# Altium footprint library RD3399-20181026.PcbLib: 57 footprints (part 2 of 4)
Each footprint in its own frame and in the unit in brackets; x right, y up, seen from the top. Pads: shape width x height; smd on the part's side, far side on the other; paste and mask are expansions set on the pad; w line width, h text height; cw(c..) or ccw(c..) is an arc to the next point about the centre after c.
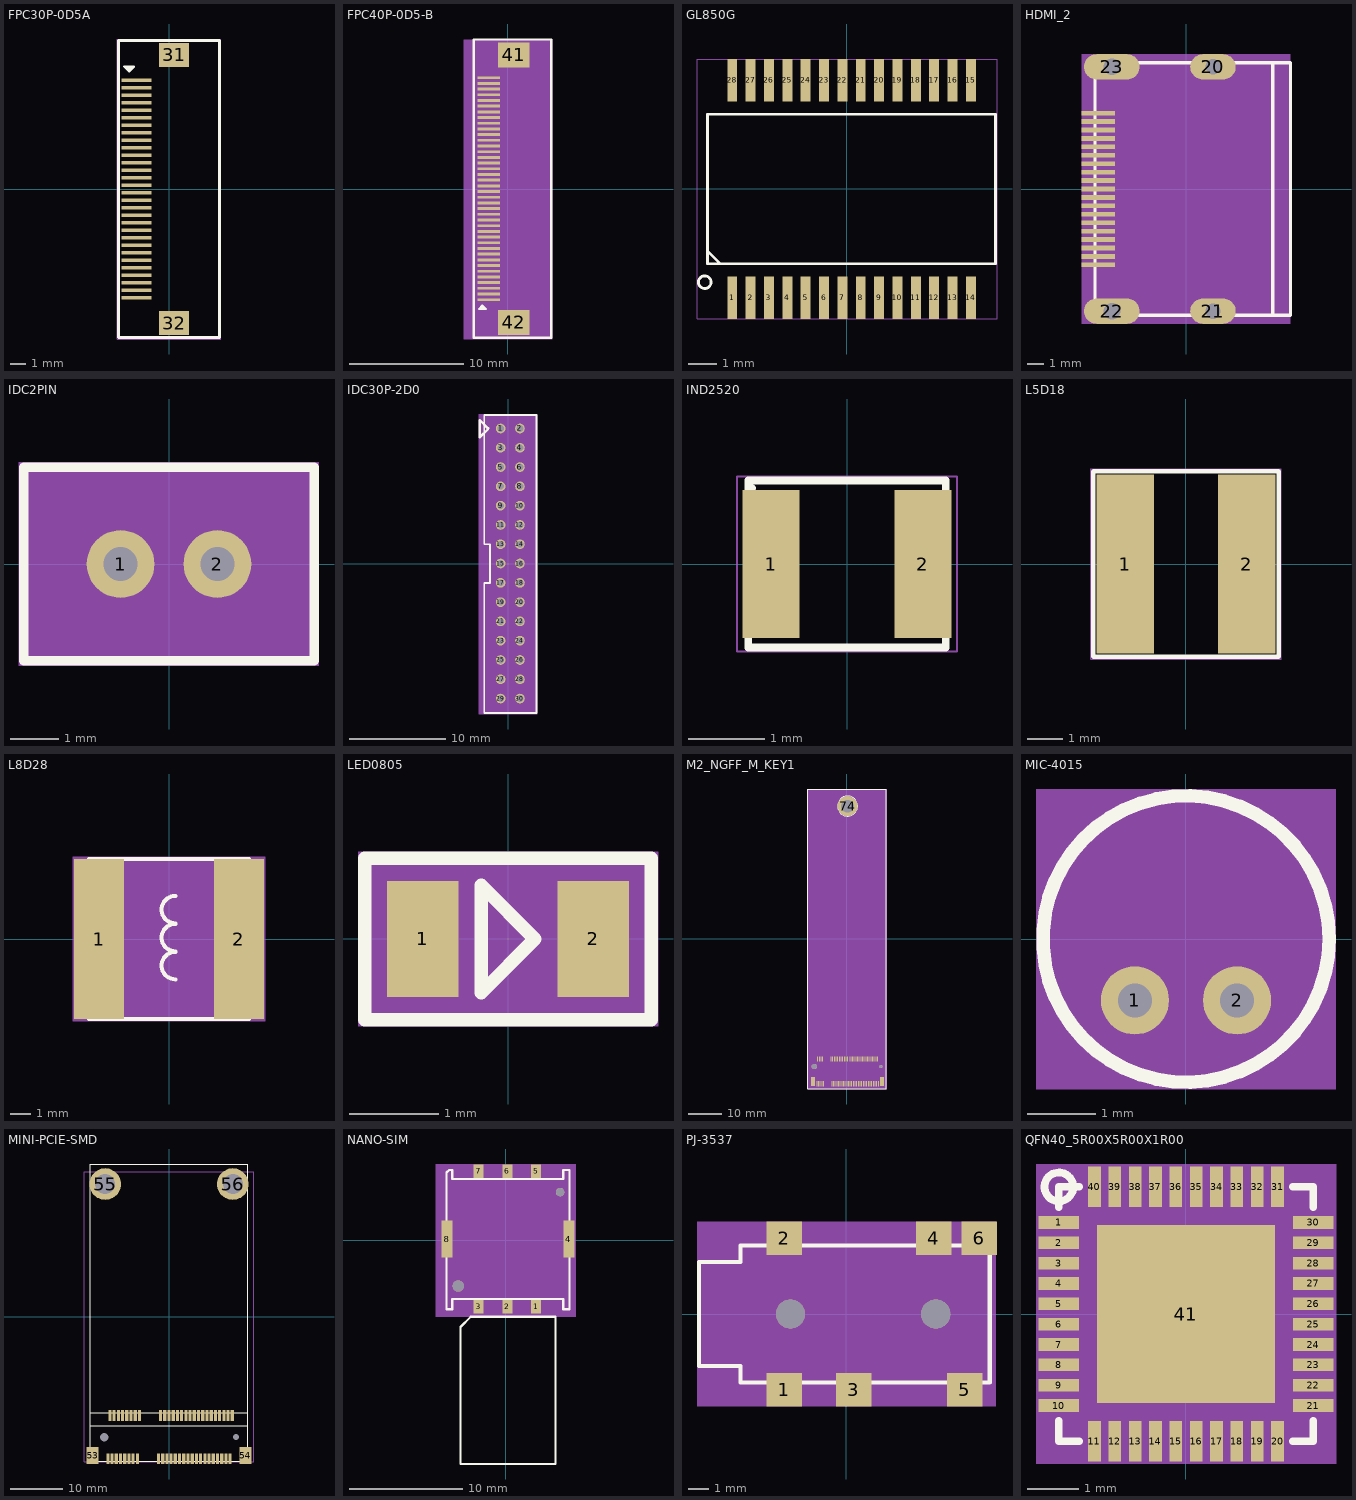
[diagram p1: the footprints below, top view; thin cyan lines are the x and y axes]

## FPC30P-0D5A [mm] "FPC30P-0D5A"
pads (32):
  rect 2x0.25 smd: 1(-2.15,7.251) 2(-2.15,6.751) 3(-2.15,6.25) 4(-2.15,5.75) 5(-2.15,5.249) 6(-2.15,4.749) 7(-2.15,4.249) 8(-2.15,3.751) 9(-2.15,3.251) 10(-2.15,2.75) 11(-2.15,2.25) 12(-2.15,1.749) 13(-2.15,1.249) 14(-2.15,0.751) 15(-2.15,0.251) 16(-2.15,-0.25) 17(-2.15,-0.75) 18(-2.15,-1.25) 19(-2.15,-1.751) 20(-2.15,-2.251) 21(-2.15,-2.749) 22(-2.15,-3.249) 23(-2.15,-3.75) 24(-2.15,-4.25) 25(-2.15,-4.75) 26(-2.15,-5.251) 27(-2.15,-5.751) 28(-2.15,-6.249) 29(-2.15,-6.749) 30(-2.15,-7.25)
  rect 2x1.6 smd: 31(0.35,8.949) 32(0.35,-8.949)
Top Overlay:
  lines w0.152: -2.811,8.06 -2.481,8.06 ; -2.75,7.961 -2.56,7.961 ; -2.654,7.842 -2.331,8.164 -2.976,8.164 -2.651,7.839
  lines w0.2: -3.35,-9.9 -3.35,9.9 0.95,9.9 3.35,9.9 3.35,-9.9 -3.35,-9.9
  text ".Designator" at -1,-11.25 h0.8
Mechanical 7:
  text "29" at -2.211,-6.749 h0.08
  text "30" at -2.211,-7.25 h0.08
  text "28" at -2.211,-6.249 h0.08
  text "31" at 0.289,8.949 h0.08
  text "2" at -2.18,6.751 h0.08
  text "15" at -2.211,0.251 h0.08
  text "24" at -2.211,-4.25 h0.08
  text "32" at 0.289,-8.949 h0.08
  text "3" at -2.18,6.25 h0.08
  text "5" at -2.18,5.249 h0.08
  text "8" at -2.18,3.751 h0.08
  text "6" at -2.18,4.749 h0.08
  text "1" at -2.18,7.251 h0.08
  text "27" at -2.211,-5.751 h0.08
  text "13" at -2.211,1.249 h0.08
  text "11" at -2.211,2.25 h0.08
  text "10" at -2.211,2.75 h0.08
  text "25" at -2.211,-4.75 h0.08
  text "26" at -2.211,-5.251 h0.08
  text "23" at -2.211,-3.75 h0.08
  text "4" at -2.18,5.75 h0.08
  text "7" at -2.18,4.249 h0.08
  text "16" at -2.211,-0.25 h0.08
  text "20" at -2.211,-2.251 h0.08
  text "18" at -2.211,-1.25 h0.08
  text "9" at -2.18,3.251 h0.08
  text "21" at -2.211,-2.749 h0.08
  text "22" at -2.211,-3.249 h0.08
  text "17" at -2.211,-0.75 h0.08
  text "14" at -2.211,0.751 h0.08
  text "12" at -2.211,1.749 h0.08
  text "19" at -2.211,-1.751 h0.08
Mechanical 8:
  lines w0.025: -3.45,-10 -3.45,10 3.45,10 3.45,-10 -3.45,-10

## FPC40P-0D5-B [mm] "FPC40P-0D5-B"
pads (42):
  rect 2x0.25 smd: 1(-1.699,-9.688) 2(-1.699,-9.188) 3(-1.699,-8.688) 4(-1.699,-8.19) 5(-1.699,-7.689) 6(-1.699,-7.189) 7(-1.699,-6.689) 8(-1.699,-6.188) 9(-1.699,-5.688) 10(-1.699,-5.188) 11(-1.699,-4.69) 12(-1.699,-4.189) 13(-1.699,-3.689) 14(-1.699,-3.189) 15(-1.699,-2.688) 16(-1.699,-2.188) 17(-1.699,-1.687) 18(-1.699,-1.19) 19(-1.699,-0.689) 20(-1.699,-0.189) 21(-1.699,0.312) 22(-1.699,0.812) 23(-1.699,1.312) 24(-1.699,1.81) 25(-1.699,2.311) 26(-1.699,2.811) 27(-1.699,3.311) 28(-1.699,3.812) 29(-1.699,4.312) 30(-1.699,4.812) 31(-1.699,5.31) 32(-1.699,5.811) 33(-1.699,6.311) 34(-1.699,6.811) 35(-1.699,7.312) 36(-1.699,7.812) 37(-1.699,8.313) 38(-1.699,8.81) 39(-1.699,9.311) 40(-1.699,9.811)
  rect 2.799x2.2 smd: 41(0.5,11.81) 42(0.5,-11.687)
Top Overlay:
  lines w0.152: -2.418,-10.399 -2.088,-10.399 ; -2.34,-10.3 -2.149,-10.3 ; -2.248,-10.178 -1.923,-10.503 -2.568,-10.503 -2.246,-10.18
  lines w0.2: -2.999,-13.039 -2.999,13.161 3.801,13.161 3.801,-13.039 -2.999,-13.039
  text ".Designator" at 2.751,-13.839 h0.8
Mechanical 7:
  text "14" at -1.699,-3.348 h0.2
  text "1" at -1.699,-9.768 h0.2
  text "17" at -1.699,-1.847 h0.2
  text "24" at -1.699,1.65 h0.2
  text "25" at -1.699,2.151 h0.2
  text "30" at -1.699,4.653 h0.2
  text "41" at 0.5,11.65 h0.2
  text "16" at -1.699,-2.348 h0.2
  text "15" at -1.699,-2.848 h0.2
  text "2" at -1.699,-9.268 h0.2
  text "5" at -1.699,-7.769 h0.2
  text "8" at -1.699,-6.268 h0.2
  text "11" at -1.699,-4.85 h0.2
  text "42" at 0.5,-11.847 h0.2
  text "35" at -1.699,7.152 h0.2
  text "21" at -1.699,0.152 h0.2
  text "18" at -1.699,-1.35 h0.2
  text "19" at -1.699,-0.849 h0.2
  text "20" at -1.699,-0.349 h0.2
  text "40" at -1.699,9.651 h0.2
  text "36" at -1.699,7.652 h0.2
  text "39" at -1.699,9.151 h0.2
  text "37" at -1.699,8.153 h0.2
  text "38" at -1.699,8.65 h0.2
  text "9" at -1.699,-5.768 h0.2
  text "10" at -1.699,-5.348 h0.2
  text "31" at -1.699,5.15 h0.2
  text "32" at -1.699,5.651 h0.2
  text "33" at -1.699,6.151 h0.2
  text "34" at -1.699,6.651 h0.2
  text "29" at -1.699,4.152 h0.2
  text "28" at -1.699,3.652 h0.2
  text "27" at -1.699,3.151 h0.2
  text "26" at -1.699,2.651 h0.2
  text "12" at -1.699,-4.349 h0.2
  text "13" at -1.699,-3.849 h0.2
  text "6" at -1.699,-7.269 h0.2
  text "7" at -1.699,-6.769 h0.2
  text "4" at -1.699,-8.27 h0.2
  text "3" at -1.699,-8.768 h0.2
  text "22" at -1.699,0.652 h0.2
  text "23" at -1.699,1.152 h0.2
Mechanical 8:
  region: 3.876,-13.139 3.876,13.139 -3.876,13.139 -3.876,-13.139

## GL850G [mm] "GL850G"
pads (28):
  rect 0.35x1.5 smd: 1(-4.063,-3.85) 2(-3.413,-3.85) 3(-2.763,-3.85) 4(-2.113,-3.85) 5(-1.463,-3.85) 6(-0.813,-3.85) 7(-0.163,-3.85) 8(0.487,-3.85) 9(1.137,-3.85) 10(1.787,-3.85) 11(2.437,-3.85) 12(3.087,-3.85) 13(3.737,-3.85) 14(4.387,-3.85) 15(4.387,3.85) 16(3.737,3.85) 17(3.087,3.85) 18(2.437,3.85) 19(1.787,3.85) 20(1.137,3.85) 21(0.487,3.85) 22(-0.163,3.85) 23(-0.813,3.85) 24(-1.463,3.85) 25(-2.113,3.85) 26(-2.763,3.85) 27(-3.413,3.85) 28(-4.063,3.85)
Top Overlay:
  circle w0.1: c-5.038,-3.3 r0.224
  lines w0.1: -4.938,-2.2 -4.538,-2.6 ; -4.938,-2.65 -4.938,2.65 5.262,2.65 5.262,-2.65 -4.938,-2.65
Mechanical 7:
  text "19" at 1.279,3.85 h0.64
  text "22" at -0.671,3.85 h0.64
  text "20" at 0.629,3.85 h0.64
  text "14" at 3.879,-3.85 h0.64
  text "15" at 3.879,3.85 h0.64
  text "13" at 3.229,-3.85 h0.64
  text "6" at -1.067,-3.85 h0.64
  text "18" at 1.929,3.85 h0.64
  text "7" at -0.417,-3.85 h0.64
  text "24" at -1.971,3.85 h0.64
  text "16" at 3.229,3.85 h0.64
  text "1" at -4.317,-3.85 h0.64
  text "10" at 1.279,-3.85 h0.64
  text "5" at -1.717,-3.85 h0.64
  text "21" at -0.021,3.85 h0.64
  text "17" at 2.579,3.85 h0.64
  text "4" at -2.367,-3.85 h0.64
  text "27" at -3.921,3.85 h0.64
  text "28" at -4.571,3.85 h0.64
  text "2" at -3.667,-3.85 h0.64
  text "3" at -3.017,-3.85 h0.64
  text "8" at 0.233,-3.85 h0.64
  text "9" at 0.883,-3.85 h0.64
  text "12" at 2.579,-3.85 h0.64
  text "11" at 1.929,-3.85 h0.64
  text "26" at -3.271,3.85 h0.64
  text "25" at -2.621,3.85 h0.64
  text "23" at -1.321,3.85 h0.64
Mechanical 8:
  lines w0.025: -5.312,-4.6 -5.312,4.6 5.312,4.6 5.312,-4.6 -5.312,-4.6
Mechanical 9:
  text ".Designator" at 0.062,-0.525 h0.6
  text "GL850G" at 2.702,0 h0.8

## HDMI_2 [mm] "HDMI_2"
pads (23):
  rect 2x0.28 smd: 1(-5.2,4.5) 2(-5.2,4) 3(-5.2,3.5) 4(-5.2,3) 5(-5.2,2.5) 6(-5.2,2) 7(-5.2,1.5) 8(-5.2,1) 9(-5.2,0.5) 10(-5.2,0) 11(-5.2,-0.5) 12(-5.2,-1) 13(-5.2,-1.5) 14(-5.2,-2) 15(-5.2,-2.5) 16(-5.2,-3) 17(-5.2,-3.5) 18(-5.2,-4) 19(-5.2,-4.5)
  oval 2.7x1.5 hole 0.9: 20(1.6,7.25) 21(1.6,-7.25)
  oval 3.3x1.5 hole 1: 22(-4.4,-7.25) 23(-4.4,7.25)
Top Overlay:
  lines w0.203: 5.15,-7.5 5.15,7.5 ; -5.4,-7.5 6.2,-7.5 6.2,7.5 -5.4,7.5 -5.4,-7.5
  text ".Designator" at 3.15,-8.15 h0.8
Mechanical 7:
  text "17" at -5.2,-2.992 h0.64
  text "8" at -5.2,1.254 h0.64
  text "11" at -5.2,0.008 h0.64
  text "2" at -5.2,4.254 h0.64
  text "5" at -5.2,2.754 h0.64
  text "1" at -5.2,4.754 h0.64
  text "7" at -5.2,1.754 h0.64
  text "10" at -5.2,0.508 h0.64
  text "3" at -5.2,3.754 h0.64
  text "4" at -5.2,3.254 h0.64
  text "12" at -5.2,-0.492 h0.64
  text "9" at -5.2,0.754 h0.64
  text "6" at -5.2,2.254 h0.64
  text "19" at -5.2,-3.992 h0.64
  text "15" at -5.2,-1.992 h0.64
  text "16" at -5.2,-2.492 h0.64
  text "13" at -5.2,-0.992 h0.64
  text "14" at -5.2,-1.492 h0.64
  text "18" at -5.2,-3.492 h0.64
  text "20" at 1.6,7.758 h0.64
  text "22" at -4.4,-6.742 h0.64
  text "23" at -4.4,7.758 h0.64
  text "21" at 1.6,-6.742 h0.64
Mechanical 8:
  region: -6.2,-8 6.2,-8 6.2,8 -6.2,8

## IDC2PIN [mm] "IDC2PIN"
pads (2):
  round 1.4 hole 0.7: 1(-1,0) 2(1,0)
Top Overlay:
  lines w0.2: -3,-2 -3,-1 -3,2 3,2 3,-2 -3,-2
Mechanical 7:
  text "1" at -1,0.254 h0.64
  text "2" at 1,0.254 h0.64
Mechanical 8:
  region: -3.1,-2.1 3.1,-2.1 3.1,2.1 -3.1,2.1
Mechanical 9:
  text ".Designator" at -0.25,1 h0.6

## IDC30P-2D0 [mm] "IDC30P-2D0"
pads (30):
  round 1 hole 0.7: 1(-0.761,14.05) 2(1.238,14.05) 3(-0.761,12.05) 4(1.238,12.05) 5(-0.761,10.05) 6(1.238,10.05) 7(-0.761,8.05) 8(1.238,8.05) 9(-0.761,6.05) 10(1.238,6.05) 11(-0.761,4.05) 12(1.238,4.05) 13(-0.761,2.05) 14(1.238,2.05) 15(-0.761,0.05) 16(1.238,0.05) 17(-0.761,-1.95) 18(1.238,-1.95) 19(-0.761,-3.95) 20(1.238,-3.95) 21(-0.761,-5.95) 22(1.238,-5.95) 23(-0.761,-7.95) 24(1.238,-7.95) 25(-0.761,-9.95) 26(1.238,-9.95) 27(-0.761,-11.95) 28(1.238,-11.95) 29(-0.761,-13.95) 30(1.238,-13.95)
Top Overlay:
  lines w0.2: -2.462,-15.45 -2.462,-1.95 -1.861,-1.95 -1.861,2.05 -2.462,2.05 -2.462,15.45 2.938,15.45 2.938,-15.45 -2.462,-15.45
  lines w0.254: -2.087,13.975 -2.912,13.15 -2.912,14.9 -2.062,14.05
Mechanical 7:
  text "13" at -0.761,2.558 h0.64
  text "14" at 1.238,2.558 h0.64
  text "25" at -0.761,-9.442 h0.64
  text "26" at 1.238,-9.442 h0.64
  text "5" at -0.761,10.304 h0.64
  text "6" at 1.238,10.304 h0.64
  text "17" at -0.761,-1.442 h0.64
  text "15" at -0.761,0.558 h0.64
  text "16" at 1.238,0.558 h0.64
  text "10" at 1.238,6.558 h0.64
  text "19" at -0.761,-3.442 h0.64
  text "29" at -0.761,-13.442 h0.64
  text "24" at 1.238,-7.442 h0.64
  text "12" at 1.238,4.558 h0.64
  text "20" at 1.238,-3.442 h0.64
  text "22" at 1.238,-5.442 h0.64
  text "9" at -0.761,6.304 h0.64
  text "27" at -0.761,-11.442 h0.64
  text "23" at -0.761,-7.442 h0.64
  text "18" at 1.238,-1.442 h0.64
  text "21" at -0.761,-5.442 h0.64
  text "30" at 1.238,-13.442 h0.64
  text "11" at -0.761,4.558 h0.64
  text "28" at 1.238,-11.442 h0.64
  text "3" at -0.761,12.304 h0.64
  text "7" at -0.761,8.304 h0.64
  text "8" at 1.238,8.304 h0.64
  text "4" at 1.238,12.304 h0.64
  text "2" at 1.238,14.304 h0.64
  text "1" at -0.761,14.304 h0.64
Mechanical 8:
  region: -3.039,-15.55 3.038,-15.55 3.038,15.55 -3.039,15.55
Mechanical 9:
  text ".Designator" at 0.038,-2.575 h0.6

## IND2520 [mm] "IND2520"
pads (2):
  rect 0.75x1.95 smd: 1(-1,0) 2(1,0)
Top Overlay:
  lines w0.1: -1.25,1 -1.3,1 -1.3,1.1 ; -1.3,1.1 -1.3,-1.1 1.3,-1.1 1.3,1.1 -1.3,1.1
  text ".Designator" at -0.875,1.6 h0.8
Mechanical 7:
  text "2" at 0.797,0 h0.51
  text "1" at -1.203,0 h0.51
Mechanical 8:
  lines w0.025: -1.45,-1.15 -1.45,1.15 1.45,1.15 1.45,-1.15 -1.45,-1.15
Mechanical 9:
  text "2.2uH/1A" at -1.1,-0.6 h1.27

## L5D18 [mm] "L5D18"
pads (2):
  rect 1.6x5 smd: 1(-1.7,0) 2(1.7,0)
Top Overlay:
  lines w0.127: -2.6,-2.6 2.6,-2.6 2.6,2.6 -2.6,2.6 -2.6,-2.6
  text ".Designator" at -0.95,3.225 h0.8
Mechanical 7:
  text "2" at 1.446,0 h0.64
  text "1" at -1.954,0 h0.64
Mechanical 8:
  lines w0.025: -2.663,-2.663 -2.663,2.663 2.663,2.663 2.663,-2.663 -2.663,-2.663
Mechanical 9:
  text "2.2uH" at -1.3,-0.8 h1.27

## L8D28 [mil] "L8D28"
pads (2):
  rect 98.4x315 smd: 1(-137.8,0) 2(137.8,0)
Top Overlay:
  lines w7.9: 12.4,-79.3 cw(c12.35,-52.35) 12.6,-25.4 ; 12.4,-24.2 cw(c12.35,2.75) 12.6,29.7 ; 12.4,30.9 cw(c12.35,57.85) 12.6,84.8
  lines w8: -157.5,-157.5 -157.5,157.5 157.5,157.5 157.5,-157.5 -157.5,-157.5
Mechanical 7:
  text "1" at -137.8,10 h25
  text "2" at 137.8,10 h25
Mechanical 8:
  region: -189,-161.5 189,-161.5 189,161.5 -189,161.5
Mechanical 9:
  text ".Designator" at -15.75,11.81 h23.62
  text "4.7uH 4A" at 7.9,-7.9 h50

## LED0805 [mm] "LED0805"
pads (2):
  rect 0.8x1.3 smd: 1(-0.95,0) 2(0.95,0)
Top Overlay:
  lines w0.15: -1.6,-0.9 1.6,-0.9 1.6,0.9 -0.4,0.9 -1.6,0.9 -1.6,-0.9 ; -0.3,-0.6 0.3,0 -0.3,0.6 -0.3,-0.6
  text ".Designator" at -1.975,0.45 h0.8
Mechanical 7:
  text "2" at 0.95,0.254 h0.64
  text "1" at -0.95,0.254 h0.64
Mechanical 8:
  region: -1.675,-0.975 1.675,-0.975 1.675,0.975 -1.675,0.975
Mechanical 9:
  text "GREEN" at -1.3,-0.4 h1

## M2_NGFF_M_KEY1 [mm] "M2_NGFF_M_KEY1"
pads (72):
  rect 0.3x1.6 smd: 1(9.442,-43.52) 2(9.192,-36.07) 3(8.942,-43.52) 4(8.692,-36.07) 5(8.442,-43.52) 6(8.192,-36.07) 7(7.942,-43.52) 8(7.692,-36.07) 9(7.442,-43.52) 10(7.192,-36.07) 11(6.942,-43.52) 12(6.692,-36.07) 13(6.442,-43.52) 14(6.192,-36.07) 15(5.942,-43.52) 16(5.692,-36.07) 17(5.442,-43.52) 18(5.192,-36.07) 19(4.942,-43.52) 20(4.692,-36.07) 21(4.442,-43.52) 22(4.192,-36.07) 23(3.942,-43.52) 24(3.692,-36.07) 25(3.442,-43.52) 26(3.192,-36.07) 27(2.942,-43.52) 28(2.692,-36.07) 29(2.442,-43.52) 30(2.192,-36.07) 31(1.942,-43.52) 32(1.692,-36.07) 33(1.442,-43.52) 34(1.192,-36.07) 35(0.942,-43.52) 36(0.692,-36.07) 37(0.442,-43.52) 38(0.192,-36.07) 39(-0.058,-43.52) 40(-0.308,-36.07) 41(-0.558,-43.52) 42(-0.808,-36.07) 43(-1.058,-43.52) 44(-1.308,-36.07) 45(-1.558,-43.52) 46(-1.808,-36.07) 47(-2.058,-43.52) 48(-2.308,-36.07) 49(-2.558,-43.52) 50(-2.808,-36.07) 51(-3.058,-43.52) 52(-3.308,-36.07) 53(-3.558,-43.52) 54(-3.808,-36.07) 55(-4.058,-43.52) 56(-4.308,-36.07) 57(-4.558,-43.52) 58(-4.808,-36.07) 59(-7.058,-43.52) 60(-7.308,-36.07) 61(-7.558,-43.52) 62(-7.808,-36.07) 63(-8.058,-43.52) 64(-8.308,-36.07) 65(-8.558,-43.52) 66(-8.808,-36.07) 67(-9.058,-43.52)
  rect 1.2x2.8 smd: 68(-10.16,-42.823) 69(10.537,-42.821)
  round 1 hole 1: 70(10.195,-38.323)
  round 1.6 hole 1.6: 71(-9.806,-38.326)
  round 6 hole 3.8: 74(0.187,39.912)
Top Overlay:
  circle w0.025: c0.192,39.928 r3
  circle w0.025: c0.192,39.928 r3
  lines w0.127: -11.841,-44.995 -11.841,44.995 11.841,44.995 11.841,-44.995 -11.841,-44.995
Mechanical 7:
  text "68" at -10.16,34.697 h0.64
  text "69" at 10.537,34.696 h0.64
  text "70" at 10.195,30.198 h0.64
  text "71" at -9.806,30.2 h0.64
  text "74" at 0.187,-48.037 h0.64
  text "10" at 7.192,27.944 h0.64
  text "61" at -7.558,35.394 h0.64
  text "58" at -4.808,27.944 h0.64
  text "32" at 1.692,27.944 h0.64
  text "30" at 2.192,27.944 h0.64
  text "28" at 2.692,27.944 h0.64
  text "26" at 3.192,27.944 h0.64
  text "24" at 3.692,27.944 h0.64
  text "22" at 4.192,27.944 h0.64
  text "20" at 4.692,27.944 h0.64
  text "8" at 7.692,27.69 h0.64
  text "6" at 8.192,27.69 h0.64
  text "59" at -7.058,35.394 h0.64
  text "56" at -4.308,27.944 h0.64
  text "48" at -2.308,27.944 h0.64
  text "46" at -1.808,27.944 h0.64
  text "44" at -1.308,27.944 h0.64
  text "42" at -0.808,27.944 h0.64
  text "40" at -0.308,27.944 h0.64
  text "36" at 0.692,27.944 h0.64
  text "34" at 1.192,27.944 h0.64
  text "3" at 8.942,35.14 h0.64
  text "1" at 9.442,35.14 h0.64
  text "27" at 2.942,35.394 h0.64
  text "21" at 4.442,35.394 h0.64
  text "15" at 5.942,35.394 h0.64
  text "9" at 7.442,35.14 h0.64
  text "45" at -1.558,35.394 h0.64
  text "39" at -0.058,35.394 h0.64
  text "33" at 1.442,35.394 h0.64
  text "57" at -4.558,35.394 h0.64
  text "51" at -3.058,35.394 h0.64
  text "67" at -9.058,35.394 h0.64
  text "65" at -8.558,35.394 h0.64
  text "63" at -8.058,35.394 h0.64
  text "29" at 2.442,35.394 h0.64
  text "43" at -1.058,35.394 h0.64
  text "5" at 8.442,35.14 h0.64
  text "41" at -0.558,35.394 h0.64
  text "31" at 1.942,35.394 h0.64
  text "19" at 4.942,35.394 h0.64
  text "17" at 5.442,35.394 h0.64
  text "7" at 7.942,35.14 h0.64
  text "11" at 6.942,35.394 h0.64
  text "13" at 6.442,35.394 h0.64
  text "23" at 3.942,35.394 h0.64
  text "25" at 3.442,35.394 h0.64
  text "35" at 0.942,35.394 h0.64
  text "37" at 0.442,35.394 h0.64
  text "47" at -2.058,35.394 h0.64
  text "49" at -2.558,35.394 h0.64
  text "53" at -3.558,35.394 h0.64
  text "55" at -4.058,35.394 h0.64
  text "66" at -8.808,27.944 h0.64
  text "64" at -8.308,27.944 h0.64
  text "62" at -7.808,27.944 h0.64
  text "18" at 5.192,27.944 h0.64
  text "16" at 5.692,27.944 h0.64
  text "14" at 6.192,27.944 h0.64
  text "12" at 6.692,27.944 h0.64
  text "4" at 8.692,27.69 h0.64
  text "2" at 9.192,27.69 h0.64
  text "54" at -3.808,27.944 h0.64
  text "38" at 0.192,27.944 h0.64
  text "60" at -7.308,27.944 h0.64
  text "50" at -2.808,27.944 h0.64
  text "52" at -3.308,27.944 h0.64
Mechanical 10:
  region: 11.905,45.059 11.905,-45.059 -11.905,-45.059 -11.905,45.059
Mechanical 11:
  text ".Designator" at 6.095,-0.938 h1.27
  text "M.2_NGFF_M_KEY" at 6.395,12.09 h1.27

## MIC-4015 [mm] "MIC-4015"
pads (2):
  round 1 hole 0.5: 1(-0.75,-0.9) 2(0.75,-0.9)
Top Overlay:
  circle w0.2: c0,0 r2.1
  text ".Designator" at 0.725,3.55 h0.8
Mechanical 7:
  text "2" at 1.004,-0.9 h0.64
  text "1" at -0.496,-0.9 h0.64
Mechanical 8:
  region: -2.2,-2.2 2.2,-2.2 2.2,2.2 -2.2,2.2
Mechanical 9:
  text "MIC" at -1.1,-0.66 h1.27

## MINI-PCIE-SMD [mm] "MINI-PCIE-SMD"
pads (58):
  rect 0.6x2 smd: 1(-11.6,-26.925) 2(-11.2,-18.725) 3(-10.8,-26.925) 4(-10.4,-18.725) 5(-10,-26.925) 6(-9.6,-18.725) 7(-9.2,-26.925) 8(-8.8,-18.725) 9(-8.4,-26.925) 10(-8,-18.725) 11(-7.6,-26.925) 12(-7.2,-18.725) 13(-6.8,-26.925) 14(-6.4,-18.725) 15(-6,-26.925) 16(-5.6,-18.725) 17(-2,-26.925) 18(-1.6,-18.725) 19(-1.2,-26.925) 20(-0.8,-18.725) 21(-0.4,-26.925) 22(0,-18.725) 23(0.4,-26.925) 24(0.8,-18.725) 25(1.2,-26.925) 26(1.6,-18.725) 27(2,-26.925) 28(2.4,-18.725) 29(2.8,-26.925) 30(3.2,-18.725) 31(3.6,-26.925) 32(4,-18.725) 33(4.4,-26.925) 34(4.8,-18.725) 35(5.2,-26.925) 36(5.6,-18.725) 37(6,-26.925) 38(6.4,-18.725) 39(6.8,-26.925) 40(7.2,-18.725) 41(7.6,-26.925) 42(8,-18.725) 43(8.4,-26.925) 44(8.8,-18.725) 45(9.2,-26.925) 46(9.6,-18.725) 47(10,-26.925) 48(10.4,-18.725) 49(10.8,-26.925) 50(11.2,-18.725) 51(11.6,-26.925) 52(12,-18.725)
  rect 2.3x3.2 smd: 53(-14.5,-26.325) 54(14.5,-26.325)
  round 6 hole 3.8: 55(-12.1,25.175) 56(12.1,25.175)
  round 0.6 hole 1.6: " "(-12.3,-22.825)
  round 0.1 hole 1.1: " "(12.7,-22.825)
Top Overlay:
  lines w0.127: -14.95,-27.425 14.95,-27.425 14.95,-18.225 -14.95,-18.225 -14.95,-27.425
  lines w0.2: -14.9,-20.625 -14.9,28.975 14.9,28.975 14.9,-20.625 -14.9,-20.625
Mechanical 7:
  text "7" at -9.454,-26.925 h0.64
  text "5" at -10.254,-26.925 h0.64
  text "42" at 7.492,-18.725 h0.64
  text "3" at -11.054,-26.925 h0.64
  text "1" at -11.854,-26.925 h0.64
  text "53" at -15.008,-26.325 h0.64
  text "54" at 13.992,-26.325 h0.64
  text "45" at 8.692,-26.925 h0.64
  text "49" at 10.292,-26.925 h0.64
  text "47" at 9.492,-26.925 h0.64
  text "51" at 11.092,-26.925 h0.64
  text "22" at -0.508,-18.725 h0.64
  text "19" at -1.708,-26.925 h0.64
  text "28" at 1.892,-18.725 h0.64
  text "48" at 9.892,-18.725 h0.64
  text "6" at -9.854,-18.725 h0.64
  text "16" at -6.108,-18.725 h0.64
  text "20" at -1.308,-18.725 h0.64
  text "24" at 0.292,-18.725 h0.64
  text "23" at -0.108,-26.925 h0.64
  text "33" at 3.892,-26.925 h0.64
  text "31" at 3.092,-26.925 h0.64
  text "17" at -2.508,-26.925 h0.64
  text "25" at 0.692,-26.925 h0.64
  text "11" at -8.108,-26.925 h0.64
  text "13" at -7.308,-26.925 h0.64
  text "32" at 3.492,-18.725 h0.64
  text "30" at 2.692,-18.725 h0.64
  text "44" at 8.292,-18.725 h0.64
  text "46" at 9.092,-18.725 h0.64
  text "40" at 6.692,-18.725 h0.64
  text "50" at 10.692,-18.725 h0.64
  text "34" at 4.292,-18.725 h0.64
  text "18" at -2.108,-18.725 h0.64
  text "26" at 1.092,-18.725 h0.64
  text "4" at -10.654,-18.725 h0.64
  text "29" at 2.292,-26.925 h0.64
  text "35" at 4.692,-26.925 h0.64
  text "37" at 5.492,-26.925 h0.64
  text "21" at -0.908,-26.925 h0.64
  text "27" at 1.492,-26.925 h0.64
  text "15" at -6.508,-26.925 h0.64
  text "9" at -8.654,-26.925 h0.64
  text "43" at 7.892,-26.925 h0.64
  text "10" at -8.508,-18.725 h0.64
  text "12" at -7.708,-18.725 h0.64
  text "2" at -11.454,-18.725 h0.64
  text "39" at 6.292,-26.925 h0.64
  text "41" at 7.092,-26.925 h0.64
  text "52" at 11.492,-18.725 h0.64
  text "36" at 5.092,-18.725 h0.64
  text "38" at 5.892,-18.725 h0.64
  text "14" at -6.908,-18.725 h0.64
  text "8" at -9.054,-18.725 h0.64
  text "56" at 11.592,25.175 h0.64
  text "55" at -12.608,25.175 h0.64
Mechanical 8:
  lines w0.025: -16.1,-27.475 -16.1,27.475 16.1,27.475 16.1,-27.475 -16.1,-27.475
Mechanical 9:
  lines w0.025: -16.1,-27.475 -16.1,27.475 16.1,27.475 16.1,-27.475 -16.1,-27.475
  text ".Designator" at -1.4,12.7 h0.6

## NANO-SIM [mm] "NANO-SIM"
pads (10):
  rect 0.9x1.2 smd: 1(2.68,-5.85) 2(0.14,-5.85) 3(-2.4,-5.85) 5(2.68,6.1) 6(0.14,6.1) 7(-2.4,6.1)
  rect 1x3.3 smd: 4(5.58,0.12) 8(-5.19,0.12)
  round 1 hole 1: " "(-4.2,-4.03)
  round 0.75 hole 0.75: " "(4.8,4.27)
Top Overlay:
  lines w0.2: -5.23,-6.075 -4.725,-6.075 -4.725,-5.175 5.07,-5.175 5.07,-6.075 5.62,-6.075 5.62,6.225 5.07,6.225 5.07,5.425 -4.725,5.425 -4.725,6.225 -5,6.225 -5.23,5.995 -5.23,-6.075 ; -4,-19.75 -4,-7.65 -3.1,-6.75 4.4,-6.75 4.4,-19.75 -4,-19.75
  text ".Designator" at 0.425,-8.05 h0.8
Mechanical 7:
  text "6" at 0.14,6.354 h0.64
  text "5" at 2.68,6.354 h0.64
  text "7" at -2.4,6.354 h0.64
  text "3" at -2.4,-5.596 h0.64
  text "2" at 0.14,-5.596 h0.64
  text "1" at 2.68,-5.596 h0.64
  text "4" at 5.58,0.628 h0.64
  text "8" at -5.19,0.628 h0.64
Mechanical 8:
  region: -6.2,6.75 -6.2,-6.75 6.2,-6.75 6.2,6.75

## PJ-3537 [mm] "PJ-3537"
pads (8):
  rect 1.7x1.6 smd: 1(-3.001,-3.65) 2(-3.001,3.65) 3(0.349,-3.65) 4(4.2,3.65) 5(5.699,-3.65) 6(6.399,3.65)
  round 1.399 hole 1.399: " "(-2.701,0) " "(4.299,0)
Top Overlay:
  lines w0.201: -7.101,-2.499 -7.101,2.499 -5.102,2.499 -5.102,3.3 6.9,3.3 6.9,-3.3 -5.102,-3.3 -5.102,-2.499 -7.101,-2.499
  text ".Designator" at -3.651,5.3 h0.8
Mechanical 7:
  text "3" at 0.349,-3.904 h0.64
  text "4" at 4.2,3.396 h0.64
  text "1" at -3.001,-3.904 h0.64
  text "2" at -3.001,3.396 h0.64
  text "5" at 4.429,-4.158 h0.64
  text "6" at 5.129,3.142 h0.64
Mechanical 8:
  region: -7.2,-4.45 7.2,-4.45 7.2,4.45 -7.2,4.45

## QFN40_5R00X5R00X1R00 [mm] "QFN40_5R00X5R00X1R00"
pads (41):
  rect 0.8x0.25 smd: 1(-2.5,1.8) 2(-2.5,1.4) 3(-2.5,1) 4(-2.5,0.6) 5(-2.5,0.2) 6(-2.5,-0.2) 7(-2.5,-0.6) 8(-2.5,-1) 9(-2.5,-1.4) 10(-2.5,-1.8) 21(2.5,-1.8) 22(2.5,-1.4) 23(2.5,-1) 24(2.5,-0.6) 25(2.5,-0.2) 26(2.5,0.2) 27(2.5,0.6) 28(2.5,1) 29(2.5,1.4) 30(2.5,1.8)
  rect 0.25x0.8 smd: 11(-1.8,-2.5) 12(-1.4,-2.5) 13(-1,-2.5) 14(-0.6,-2.5) 15(-0.2,-2.5) 16(0.2,-2.5) 17(0.6,-2.5) 18(1,-2.5) 19(1.4,-2.5) 20(1.8,-2.5) 31(1.8,2.5) 32(1.4,2.5) 33(1,2.5) 34(0.6,2.5) 35(0.2,2.5) 36(-0.2,2.5) 37(-0.6,2.5) 38(-1,2.5) 39(-1.4,2.5) 40(-1.8,2.5)
  rect 3.5x3.5 smd: 41(0,0)
Top Overlay:
  circle w0.15: c-2.5,2.5 r0.283
  lines w0.15: -2.5,-2.1 -2.5,-2.5 -2.1,-2.5 ; -2.5,2.1 -2.5,2.5 -2.1,2.5 ; 2.1,-2.5 2.5,-2.5 2.5,-2.1 ; 2.1,2.5 2.5,2.5 2.5,2.1
  text ".Designator" at 24.4,-13.425 h0.8
Mechanical 7:
  text "26" at 2.5,-0.206 h0.51
  text "29" at 2.5,0.994 h0.51
  text "27" at 2.5,0.194 h0.51
  text "40" at -1.8,2.094 h0.51
  text "38" at -1,2.094 h0.51
  text "3" at -2.5,0.797 h0.51
  text "28" at 2.5,0.594 h0.51
  text "25" at 2.5,-0.606 h0.51
  text "24" at 2.5,-1.006 h0.51
  text "20" at 1.8,-2.906 h0.51
  text "10" at -2.5,-2.206 h0.51
  text "41" at -1.27,-0.813 h0.51
  text "36" at -0.2,2.094 h0.51
  text "35" at 0.2,2.094 h0.51
  text "39" at -1.4,2.094 h0.51
  text "8" at -2.5,-1.203 h0.51
  text "9" at -2.5,-1.603 h0.51
  text "18" at 1,-2.906 h0.51
  text "31" at 1.8,2.094 h0.51
  text "32" at 1.4,2.094 h0.51
  text "30" at 2.5,1.394 h0.51
  text "1" at -2.5,1.597 h0.51
  text "23" at 2.5,-1.406 h0.51
  text "21" at 2.5,-2.206 h0.51
  text "33" at 1,2.094 h0.51
  text "6" at -2.5,-0.403 h0.51
  text "14" at -0.6,-2.906 h0.51
  text "11" at -1.8,-2.906 h0.51
  text "37" at -0.6,2.094 h0.51
  text "16" at 0.2,-2.906 h0.51
  text "5" at -2.5,-0.003 h0.51
  text "34" at 0.6,2.094 h0.51
  text "17" at 0.6,-2.906 h0.51
  text "19" at 1.4,-2.906 h0.51
  text "15" at -0.2,-2.906 h0.51
  text "22" at 2.5,-1.806 h0.51
  text "2" at -2.5,1.197 h0.51
  text "7" at -2.5,-0.803 h0.51
  text "4" at -2.5,0.397 h0.51
  text "12" at -1.4,-2.906 h0.51
  text "13" at -1,-2.906 h0.51
Mechanical 8:
  region: -2.95,-2.95 2.95,-2.95 2.95,2.95 -2.95,2.95
Mechanical 9:
  text "ALC5651" at -0.7,-0.1 h1.27